# Altium footprint library Switches-relays.PcbLib: 71 footprints (part 1 of 5)
Each footprint in its own frame and in the unit in brackets; x right, y up, seen from the top. Pads: shape width x height; smd on the part's side, far side on the other; paste and mask are expansions set on the pad; w line width, h text height; cw(c..) or ccw(c..) is an arc to the next point about the centre after c.
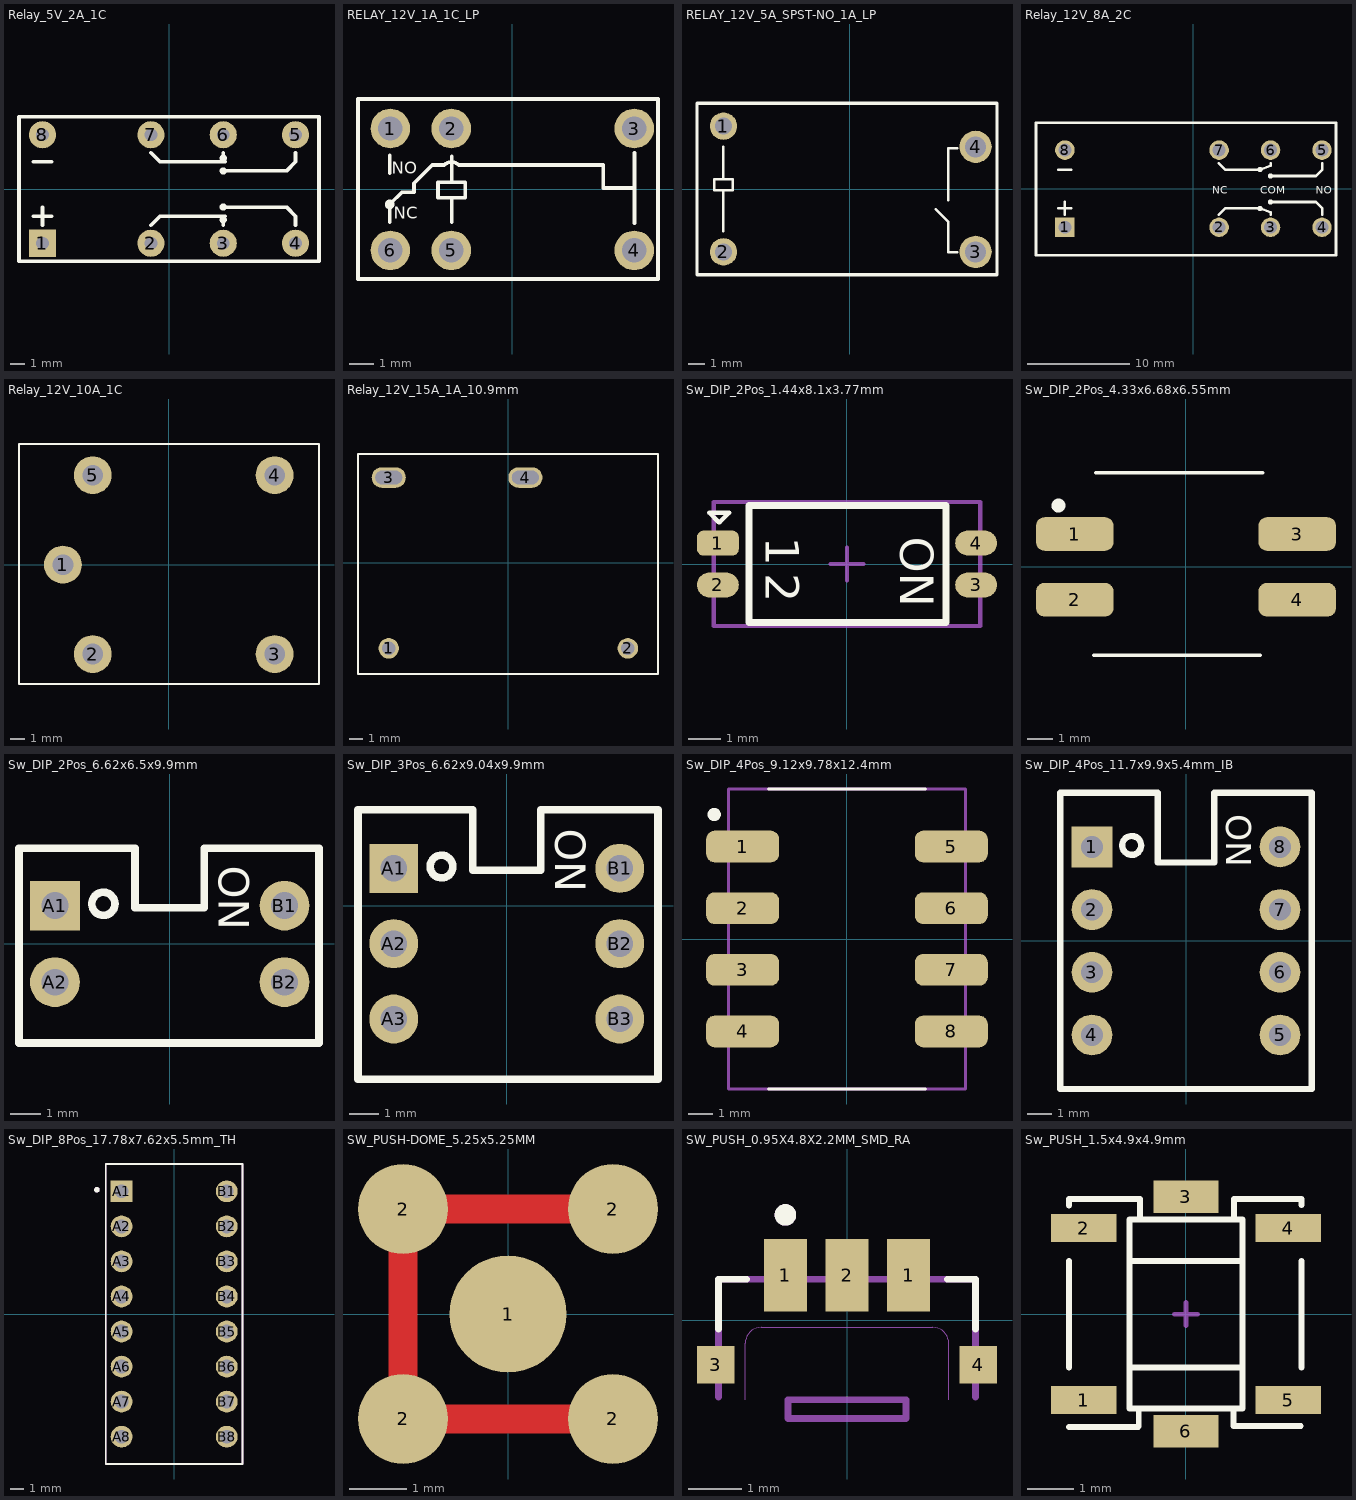
[diagram p0: the footprints below, top view; thin cyan lines are the x and y axes]

## Relay_5V_2A_1C [mil] "/20200131/V-A.Patino"
pads (8):
  rect 75x75 hole 35: 1(-350,-150)
  round 75 hole 35: 2(-50,-150) 3(150,-150) 4(350,-150) 5(350,150) 6(150,150) 7(-50,150) 8(-350,150)
Top Overlay:
  lines w10: -375,-75 -325,-75 ; -375,75 -325,75 ; -350,-100 -350,-50 ; -50,-100 -25,-75 155,-75 ; -50,100 -25,75 155,75 ; 150,-100 150,-90 ; 150,100 150,90 ; 155,50 325,50 350,75 350,100 ; 350,-100 350,-75 325,-50 155,-50 ; 150,90 cw(c150,85) 150,80 cw(c150,85) 150,90 ; 155,-50 cw(c150,-50) 145,-50 cw(c150,-50) 155,-50 ; -415,-200 415,-200 415,200 -415,200 -415,-200 ; 145,-85 ccw(c150,-85) 155,-85 ccw(c150,-85) 145,-85 ; 150,45 ccw(c150,50) 150,55 ccw(c150,50) 150,45
3D body: height 393.7, standoff 0, extent -415,-200 415,200
3D body: height 0, standoff -98.43, extent -365.68,-165.72 -334.32,-134.28
3D body: height 0, standoff -98.43, extent -65.61,-165.71 -34.24,-134.28
3D body: height 0, standoff -98.43, extent 134.39,-165.71 165.76,-134.28
3D body: height 0, standoff -98.43, extent 334.39,-165.71 365.76,-134.28
3D body: height 0, standoff -98.43, extent 334.39,134.29 365.76,165.72
3D body: height 0, standoff -98.43, extent 134.39,134.29 165.76,165.72
3D body: height 0, standoff -98.43, extent -65.61,134.29 -34.24,165.72
3D body: height 0, standoff -98.43, extent -365.61,134.29 -334.24,165.72

## RELAY_12V_1A_1C_LP [mil] "/20201013/C-A.Serna.A"
pads (6):
  round 65 hole 40: 1(-200,100) 2(-100,100) 3(200,100) 4(200,-100) 5(-100,-100) 6(-200,-100)
Top Overlay:
  circle w5.98: c-201.18,-24.41 r5
  lines w5.98: -111.81,40.16 cw(c-99.8,28.15) -87.8,40.16
  lines w6: -201.18,-53.94 -201.18,-24.41 -181.1,-4.33 -161.42,-4.33 -161.42,10.24 -131.5,40.16 -111.81,40.16 ; -201.18,26.77 -201.18,56.3 ; -99.61,-53.94 -99.61,-13.39 ; -99.61,11.81 -99.61,54.33 ; -87.8,40.16 88.19,40.16 149.21,40.16 149.21,2.36 200.39,2.36 ; 200.39,-55.12 200.39,59.84 ; -253.16,-146.86 238.97,-146.86 238.97,148.42 -253.16,148.42 -253.16,-146.86 ; -122.05,-13.39 -77.17,-13.39 -77.17,11.81 -122.05,11.81 -122.05,-13.39
  text "NC" at -194.49,-47.67 h20
  text "NO" at -197.71,25.67 h20
3D body "HFD23[1].stp": height 401.57, standoff -129.92, extent -253.16,-146.86 238.97,148.42

## RELAY_12V_5A_SPST-NO_1A_LP [mm] "/20201013/C-A.Serna.A"
pads (4):
  round 1.651 hole 1.016: 1(-7.62,3.8) 2(-7.62,-3.8)
  round 1.95 hole 1.27: 3(7.62,-3.8) 4(7.62,2.55)
Top Overlay:
  lines w0.152: -7.62,-2.56 -7.62,-0.062 ; -7.62,0.578 -7.62,2.56 ; 5.198,-1.212 5.96,-1.974 5.96,-2.504 5.96,-3.83 6.5,-3.83 ; 5.96,-0.692 5.96,2.46 6.5,2.46 ; -8.19,-0.062 -7.05,-0.062 -7.05,0.578 -8.19,0.578 -8.19,-0.062
  lines w0.203: -9.22,-5.19 8.91,-5.19 8.91,5.19 -9.22,5.19 -9.22,-5.19
3D body "HF32FA[1].stp": height 12.8, standoff -3.5, extent -9.01,-5.05 8.59,5.05

## Relay_12V_8A_2C [mm] "/20200408/C-A.Serna.A"
pads (8):
  rect 1.905x1.905 hole 1.27: 1(-12.599,-3.78)
  round 1.905 hole 1.27: 2(2.519,-3.78) 3(7.559,-3.78) 4(12.599,-3.78) 5(12.599,3.78) 6(7.559,3.78) 7(2.519,3.78) 8(-12.599,3.78)
Top Overlay:
  lines w0.254: -13.234,-1.935 -11.964,-1.935 ; -13.234,1.875 -11.964,1.875 ; -12.599,-2.57 -12.599,-1.3 ; 2.479,-2.57 3.114,-1.935 6.511,-1.935 7.559,-2.316 7.559,-2.57 ; 2.479,2.51 3.114,1.875 6.511,1.875 7.559,2.256 7.559,2.51 ; 7.686,1.24 12.004,1.24 12.639,1.875 12.639,2.51 ; 12.639,-2.57 12.639,-1.935 12.004,-1.3 7.686,-1.3 ; 7.686,-1.3 cw(c7.559,-1.3) 7.432,-1.3 cw(c7.559,-1.3) 7.686,-1.3 ; -15.429,-6.53 13.971,-6.53 13.971,6.47 -15.429,6.47 -15.429,-6.53 ; 6.384,-1.935 ccw(c6.511,-1.935) 6.638,-1.935 ccw(c6.511,-1.935) 6.384,-1.935 ; 6.384,1.875 ccw(c6.511,1.875) 6.638,1.875 ccw(c6.511,1.875) 6.384,1.875 ; 7.559,1.113 cw(c7.559,1.24) 7.559,1.367 cw(c7.559,1.24) 7.559,1.113
  text "NC" at 1.844,-0.484 h0.76
  text "COM" at 6.543,-0.484 h0.76
  text "NO" at 12.004,-0.484 h0.76
3D body: height 0, standoff -2.5, extent -12.997,-4.179 -12.201,-3.381
3D body: height 0, standoff -2.5, extent 2.123,-4.239 2.919,-3.441
3D body: height 0, standoff -2.5, extent 7.163,-4.239 7.959,-3.441
3D body: height 0, standoff -2.5, extent 12.202,-4.239 12.999,-3.441
3D body: height 0, standoff -2.5, extent 12.202,3.381 12.999,4.179
3D body: height 0, standoff -2.5, extent 7.163,3.381 7.959,4.179
3D body: height 0, standoff -2.5, extent 2.123,3.381 2.919,4.179
3D body: height 0, standoff -2.5, extent -12.996,3.381 -12.199,4.179
3D body: height 16, standoff 0.2, extent -15.429,-6.53 13.971,6.47

## Relay_12V_10A_1C [mm] "/ 20190222 / N-A.Potosi"
pads (5):
  round 2.54 hole 1.397: 1(-7.1,0) 2(-5.1,-6) 3(7.1,-6) 4(7.1,6) 5(-5.1,6)
Top Overlay:
  lines w0.127: -10.045,-8.007 10.072,-8.007 10.072,8.097 -10.045,8.097 -10.045,-8.007
3D body "User Library-RELAY  12MMx12MM SQUARE.STEP": height 15.02, standoff -1.98, extent -10.102,-7.999 9.898,8.001

## Relay_12V_15A_1A_10.9mm [mil] "/ 20210512 / J-E.Pachon"
pads (4):
  round 60 hole 40: 1(-350,-250) 2(350,-250)
  oval 100x60 hole 40 slot 78.74 at 0 deg: 3(-350,250) 4(50,250)
Top Overlay:
  lines w5: -440,-325 438.17,-325 438.17,318.88 -440,318.88 -440,-325
3D body "G5CA_1A_E.step": height 421.76, standoff -149.1, extent -433.88,-316.56 432.26,313.36

## Sw_DIP_2Pos_1.44x8.1x3.77mm [mil] "/ 20200401/ C-A.Serna.A"
pads (4):
  rrect50% 50x30 smd: 1(-154.52,25)
  oval 50x30 smd: 2(-154.52,-25) 3(154.52,-25) 4(154.52,25)
Top Overlay:
  lines w5: -153.54,50 -164.96,61.42 -140.94,61.42 -152.36,50
  lines w8: -117.32,-70.08 -117.32,70.08 118.5,70.08 118.5,-70.08 -117.32,-70.08
  text "1" at -96.97,32.68 h40
  text "2" at -96.97,-11.02 h40
  text "ON" at 63.78,32.68 h40
Mechanical 15:
  lines w5: -19.69,0 19.68,0 ; 0,-19.69 0,19.68 ; -159.45,-74.02 -159.45,74.02 159.45,74.02 159.45,-74.02 -159.45,-74.02
3D body: height 59.06, standoff 7.87, extent -117.32,-70.08 118.5,70.08

## Sw_DIP_2Pos_4.33x6.68x6.55mm [mm] "/ 20190222 / N-A.Potosi"
pads (4):
  rrect50% 3x1.3 smd: 1(-4.3,1.27) 2(-4.3,-1.27) 3(4.3,1.27) 4(4.3,-1.27)
Top Overlay:
  circle w0.381: c-4.93,2.37 r0.08
  lines w0.127: -3.58,-3.42 2.88,-3.42 ; -3.49,3.64 2.97,3.64
3D body "DIP Swtich SDA02H0SBD 2 Pos 2_54mm pitch.step": height 4.45, standoff 0, extent -4.625,-3.45 4.445,3.61

## Sw_DIP_2Pos_6.62x6.5x9.9mm [mil] "/20240319/J.Jaramillo"
pads (4):
  rect 65x65 hole 35: A1(-150,50)
  round 65 hole 35: A2(-150,-50) B1(150,50) B2(150,-50)
Top Overlay:
  circle w10: c-86.61,52.36 r15.07
  lines w10: -196.88,-129.53 -196.88,125 -45.28,125 -45.28,47.24 45.28,47.24 45.28,125 195.1,125 195.1,-129.53 -196.88,-129.53
  text "ON" at 64.17,102.36 h40
3D body "CUI_DEVICES_DS01-254-L-02BE.step": height 243.11, standoff -164.37, extent -195.4,-129.53 194.36,126.37

## Sw_DIP_3Pos_6.62x9.04x9.9mm [mil] "/ 20240319/ J.Jaramillo"
pads (6):
  rect 65x65 hole 35: A1(-150,50)
  round 65 hole 35: A2(-150,-50) A3(-150,-150) B1(150,50) B2(150,-50) B3(150,-150)
Top Overlay:
  circle w10: c-86.61,52.36 r15.07
  lines w10: -197.46,-230 200.79,-230 200.79,127.97 45.28,127.97 45.28,47.24 -45.28,47.24 -45.28,127.97 -197.46,127.97 -197.46,-230
  text "ON" at 64.17,102.36 h40
3D body "CUI_DEVICES_DS01C-254-L-03BE.step": height 243.11, standoff -164.37, extent -195.02,-228.46 194.74,127.44

## Sw_DIP_4Pos_9.12x9.78x12.4mm [mm] "/ 20190916 / C-D Viveros"
pads (8):
  rrect50% 3x1.3 smd: 1(-4.3,3.81) 2(-4.3,1.27) 3(-4.3,-1.27) 4(-4.3,-3.81) 5(4.3,3.81) 6(4.3,1.27) 7(4.3,-1.27) 8(4.3,-3.81)
Top Overlay:
  circle w0.381: c-5.47,5.13 r0.08
  lines w0.127: -3.23,-6.18 3.23,-6.18 ; -3.23,6.18 3.23,6.18
Mechanical 1:
  lines w0.127: -4.89,-6.18 4.89,-6.18 4.89,6.18 -4.89,6.18 -4.89,-6.18
3D body: height 9.12, standoff 0, extent -4.89,-6.18 4.89,6.18

## Sw_DIP_4Pos_11.7x9.9x5.4mm_IB [mil] "/20200110/V-A.Patino"
pads (8):
  rect 65x65 hole 35: 1(-150,150)
  round 65 hole 35: 2(-150,50) 3(-150,-50) 4(-150,-150) 5(150,-150) 6(150,-50) 7(150,50) 8(150,150)
Top Overlay:
  circle w10: c-86.61,152.36 r15.07
  lines w10: -200.79,-236.22 -200.79,236.22 -45.28,236.22 -45.28,125.2 45.28,125.2 45.28,236.22 200.79,236.22 200.79,-236.22 -200.79,-236.22
  text "ON" at 64.17,202.36 h40
3D body "A6E_4101_N.step": height 219.01, standoff -137.29, extent -193.31,-226.38 196.46,227.17

## Sw_DIP_8Pos_17.78x7.62x5.5mm_TH [mm] "/20240310/J.Jaramillo"
pads (16):
  rect 1.58x1.58 / inner round 1.58 / far side rect 1.58x1.58 hole 1: A1(-3.81,8.89)
  round 1.58 hole 1: A2(-3.81,6.35) A3(-3.81,3.81) A4(-3.81,1.27) A5(-3.81,-1.27) A6(-3.81,-3.81) A7(-3.81,-6.35) A8(-3.81,-8.89) B1(3.81,8.89) B2(3.81,6.35) B3(3.81,3.81) B4(3.81,1.27) B5(3.81,-1.27) B6(3.81,-3.81) B7(3.81,-6.35) B8(3.81,-8.89)
Top Overlay:
  circle w0.2: c-5.6,9 r0.1
  lines w0.127: -4.95,-10.87 4.95,-10.87 4.95,10.87 -4.95,10.87 -4.95,-10.87
Top 3D Body (Mech13):
  circle w0.2: c-5.6,9 r0.1
  lines w0.127: -4.95,-10.87 4.95,-10.87 4.95,10.87 -4.95,10.87 -4.95,-10.87
3D body "CUI_DEVICES_DS01-254-L-08BE.step": height 7.18, standoff -3.17, extent -4.95,-10.848 4.95,10.892

## SW_PUSH-DOME_5.25x5.25MM [mm] "/20230210/A-F.Romo"
pads (5):
  round 2.032 smd paste-25.375: 1(0,0)
  round 1.56 smd paste-25.375: 2(-1.82,-1.82) 2(-1.82,1.82) 2(1.82,-1.82) 2(1.82,1.82)
Top Layer:
  lines w0.508: 1.82,-1.82 -1.82,-1.82 -1.82,1.82 1.82,1.82
3D body "METAL DOME 6-SDL-320 SS.stp": height 0.41, standoff 0, extent -2.617,-2.617 2.618,2.618

## SW_PUSH_0.95X4.8X2.2MM_SMD_RA [mm] "SPST-NO 0.02A 15V / 20211214 / E.Naranjo"
pads (5):
  rect 0.8x1.35 smd: 1(-1.15,0.837) 1(1.15,0.837) 2(0,0.837)
  rect 0.7x0.7 smd: 3(-2.45,-0.837) 4(2.45,-0.837)
Top Overlay:
  circle w0.2: c-1.15,1.963 r0.1
  lines w0.127: -2.4,-0.168 -2.4,0.763 -1.87,0.763 ; 1.87,0.763 2.4,0.763 2.4,-0.168
Mechanical 1:
  circle w0.2: c-1.15,1.963 r0.1
  lines w0: -1.9,-1.488 -1.9,-0.437 cw(c-1.6,-0.437) -1.6,-0.138 1.6,-0.138 cw(c1.6,-0.437) 1.9,-0.437 1.9,-1.488
  lines w0.125: -1.1,-1.488 1.1,-1.488
  lines w0.127: -2.4,-1.438 -2.4,0.763 2.4,0.763 2.4,-1.438 ; -1.1,-1.488 -1.1,-1.837 1.1,-1.837 1.1,-1.488
3D body "EVP-AEDB2A--3DModel-STEP-56544.STEP": height 1.01, standoff -1.99, extent -2.4,-1.787 2.4,0.813

## Sw_PUSH_1.5x4.9x4.9mm [mm] "/20220629/F-A.Ospina"
pads (6):
  rect 1.4x0.6 smd: 1(-2.2,-1.852) 2(-2.2,1.848) 4(2.2,1.848) 5(2.2,-1.852)
  rect 1.4x0.7 smd: 3(0,2.528) 6(0,-2.527)
Top Overlay:
  lines w0.127: -2.516,-2.428 -1.028,-2.428 ; -2.516,-1.155 -2.516,1.141 ; -2.516,2.332 -2.516,2.472 -1.003,2.472 ; -1.219,-1.155 1.194,-1.155 ; -1.194,1.141 1.219,1.141 ; -1.016,-2.415 -1.016,-2.095 ; -0.99,2.078 -0.99,2.472 ; 1.02,-2.042 1.02,-2.412 2.469,-2.412 ; 1.03,2.073 1.03,2.477 ; 1.037,2.472 2.484,2.472 2.484,2.344 ; 2.484,-1.155 2.484,1.141 ; -1.219,-2.034 -1.219,2.03 1.219,2.03 1.219,-2.034 -1.219,-2.034
Mechanical 1:
  lines w0.1: -0.254,-0.002 0.254,-0.002 ; 0,-0.256 0,0.252
3D body "TACT-SWITCH-NEW.STEP": height 1.49, standoff -0.01, extent -2.516,-2.428 2.484,2.472